# EAGLE library part EEPROM_93C46 (library zz-m-pad-2.1)
IC SERIAL EEPROM 1K 64X16 8SOIC 1K (64 x 16) 2MHz Microwire 3-Wire Serial 8SOIC package digikey part#: 93C46B/SN-ND microchip part#: 93C46B/SN
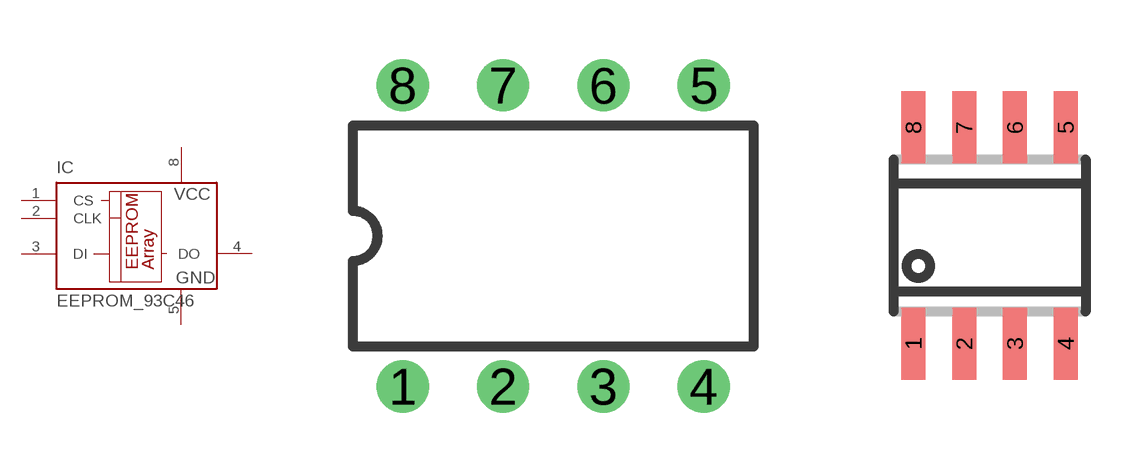
[diagram p14: symbol with the pads of DIL08; footprints DIL08, SOIC8]

Designator prefix IC

## EEPROM_93C46D  [DIL08]
1  CS  in
2  CLK  in
3  DI  in
4  DO  hiz
5  GND  pwr
8  VCC  pwr

## EEPROM_93C46S  [SOIC8]
Pads as for DIL08

## Footprint DIL08 (pad centres in mm)
Dual In Line
drill 0.813 round: 1 -3.81,-3.81; 2 -1.27,-3.81; 3 1.27,-3.81; 4 3.81,-3.81; 5 3.81,3.81; 6 1.27,3.81; 7 -1.27,3.81; 8 -3.81,3.81

## Footprint SOIC8 (pad centres in mm)
Small Outline IC
smd 0.6 x 1.8: 1 -1.905,-2.7; 2 -0.635,-2.7; 3 0.635,-2.7; 4 1.905,-2.7; 5 1.905,2.7; 6 0.635,2.7; 7 -0.635,2.7; 8 -1.905,2.7